# Altium schematic symbol library MAX4460-piggyback-schlib.SchLib: 1 symbol
Pins are listed as number, name and electrical type; pins without a type are passive.

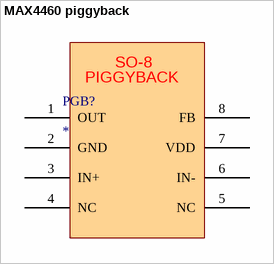
[diagram p0: symbol MAX4460 piggyback]

## MAX4460 piggyback
designator PGB?
footprint SO-8 piggyback
pins: 1 OUT, 2 GND, 3 IN+, 4 NC, 5 NC, 6 IN-, 7 VDD, 8 FB
text: SO-8; PIGGYBACK